# Altium schematic symbol library 电压参考.SchLib: 1 symbol
Pins are listed as number, name and electrical type; pins without a type are passive.

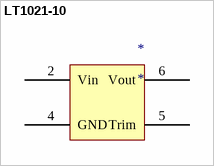
[diagram p0: symbol LT1021-10]

## LT1021-10
designator *
10V Precision Reference
footprint DIP8-300_MH (带底座 9.4*7.6*3.8(长宽高）)
pins: 2 Vin, 4 GND, 5 Trim, 6 Vout